# EAGLE library part C-GRID-20 (library con-molex)
CONNECTOR wire to board 2.54 mm (0.100") pitch header
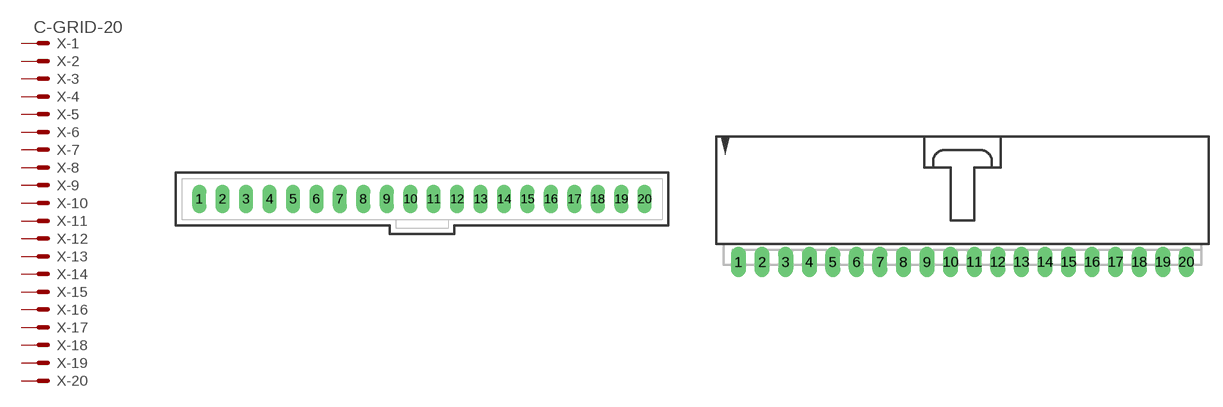
[diagram p59: symbol with the pads of 70543-20; footprints 70543-20, 70553-20]

Designator prefix X; gates -1=MV -2=M -3=M -4=M -5=M -6=M -7=M -8=M -9=M -10=M -11=M -12=M -13=M -14=M -15=M -16=M -17=M -18=M -19=M -20=M

## C-GRID-20-70543 (MF: MOLEX; OC_FARNELL: unknown; OC_NEWARK: unknown)  [70543-20]
1  -1:S  pas
2  -2:S  pas
3  -3:S  pas
4  -4:S  pas
5  -5:S  pas
6  -6:S  pas
7  -7:S  pas
8  -8:S  pas
9  -9:S  pas
10  -10:S  pas
11  -11:S  pas
12  -12:S  pas
13  -13:S  pas
14  -14:S  pas
15  -15:S  pas
16  -16:S  pas
17  -17:S  pas
18  -18:S  pas
19  -19:S  pas
20  -20:S  pas

## C-GRID-20-70553 (MF: MOLEX; OC_FARNELL: unknown; OC_NEWARK: unknown)  [70553-20]
Pads as for 70543-20

## Footprint 70543-20 (pad centres in mm)
2.54mm Pitch SL™ Header, Single Row, Vertical, 3.05mm Pocket, Shrouded, 21 Circuits, 0.38µm Gold (Au) Selective Plating, Tin (Sn) PC Tail Plating Datasheet <http://www.molex.com/pdm_docs/sd/705430020_sd.pdf>
drill 1.016 long: 1 -24.13,0; 2 -21.59,0; 3 -19.05,0; 4 -16.51,0; 5 -13.97,0; 6 -11.43,0; 7 -8.89,0; 8 -6.35,0; 9 -3.81,0; 10 -1.27,0; 11 1.27,0; 12 3.81,0; 13 6.35,0; 14 8.89,0; 15 11.43,0; 16 13.97,0; 17 16.51,0; 18 19.05,0; 19 21.59,0; 20 24.13,0

## Footprint 70553-20 (pad centres in mm)
2.54mm Pitch SL™ Header, Low Profile, Single Row, Right Angle, 3.05mm Pocket, Shrouded, 21 Circuits, 0.38µm Gold (Au) Selective Plating, Tin (Sn) PC Tail Plating Datasheet <http://www.molex.com/pdm_docs/sd/705530020_sd.pdf>
drill 1.092 long: 1 -24.13,-7.62; 2 -21.59,-7.62; 3 -19.05,-7.62; 4 -16.51,-7.62; 5 -13.97,-7.62; 6 -11.43,-7.62; 7 -8.89,-7.62; 8 -6.35,-7.62; 9 -3.81,-7.62; 10 -1.27,-7.62; 11 1.27,-7.62; 12 3.81,-7.62; 13 6.35,-7.62; 14 8.89,-7.62; 15 11.43,-7.62; 16 13.97,-7.62; 17 16.51,-7.62; 18 19.05,-7.62; 19 21.59,-7.62; 20 24.13,-7.62